# Altium schematic symbol library Net Tie.SchLib: 2 symbols
Pins are listed as number, name and electrical type; pins without a type are passive.

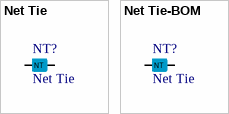
[diagram p0: symbols Net Tie to Net Tie-BOM]

## Net Tie
designator NT?  (net tie, no BOM)
Net Tie (Not in BOM)
footprint NT-0.1 (0.1 mm Width Net Tie)
footprint NT-0.2 (0.2 mm Width Net Tie)
footprint NT-0.3 (0.3 mm Width Net Tie)
footprint NT-0.4 (0.4 mm Width Net Tie)
footprint NT-0.5 (0.5 mm Width Net Tie)
pins: 1, 2
text: NT

## Net Tie-BOM
designator NT?, comment Net Tie  (net tie)
Net Tie (in BOM)
footprint NT-0.1 (0.1 mm Width Net Tie)
footprint NT-0.2 (0.2 mm Width Net Tie)
footprint NT-0.3 (0.3 mm Width Net Tie)
footprint NT-0.4 (0.4 mm Width Net Tie)
footprint NT-0.5 (0.5 mm Width Net Tie)
footprint NT-0.6 (0.6 mm Width Net Tie)
footprint NT-0.7 (0.7 mm Width Net Tie)
footprint NT-0.8 (0.8 mm Width Net Tie)
footprint NT-0.9 (0.9 mm Width Net Tie)
footprint NT-1.0 (1.0 mm Width Net Tie)
pins: 1, 2
text: NT